# Altium schematic symbol library 5054331271.SchLib: 1 symbol
Pins are listed as number, name and electrical type; pins without a type are passive.

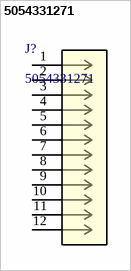
[diagram p0: symbol 5054331271]

## 5054331271
designator J?
1.25mm Pitch, Micro-Lock Plus PCB Header, Dual Row, Vertical, Surface Mount, Tin-Bismuth Plating, Positive Lock, 12 Circuits, Black; Manufacturer_Name: Molex Connector Corporation; Copyright: Copyright (C) 2025 Ultra Librarian. All rights reserved.; Manufacturer_Part_Number: 5054331271; RefDes: RefDes; Type: Type
footprint CONN_505433_12_MOL
pins: 1, 2, 3, 4, 5, 6, 7, 8, 9, 10, 11, 12